# EAGLE library part CON-HARTING-ML_ML10 (library iMX233-OLinuXino-NANO_Rev_B)
HARTING
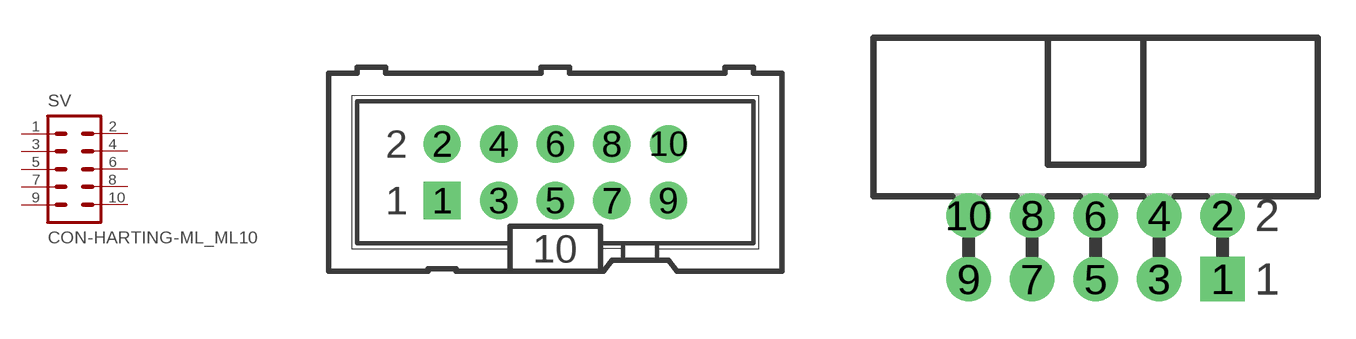
[diagram p8: symbol with the pads of CON-HARTING-ML_ML10-MALE; footprints CON-HARTING-ML_ML10-MALE, CON-HARTING-ML_ML10L-FEMALE]

Designator prefix SV

## CON-HARTING-ML_ML10  [CON-HARTING-ML_ML10-MALE]
1  1  pas
2  2  pas
3  3  pas
4  4  pas
5  5  pas
6  6  pas
7  7  pas
8  8  pas
9  9  pas
10  10  pas

## CON-HARTING-ML_ML10"  [CON-HARTING-ML_ML10L-FEMALE]
Pads as for CON-HARTING-ML_ML10-MALE

## CON-HARTING-ML_ML10-3M  [CON-HARTING-ML_3M_10]
Pads as for CON-HARTING-ML_ML10-MALE

## CON-HARTING-ML_ML10-3ML  [CON-HARTING-ML_3M_10L]
Pads as for CON-HARTING-ML_ML10-MALE

## CON-HARTING-ML_ML10F50  [CON-HARTING-ML_ML10_50MILS_F]
Pads as for CON-HARTING-ML_ML10-MALE

## CON-HARTING-ML_ML10L  [CON-HARTING-ML_ML10L]
Pads as for CON-HARTING-ML_ML10-MALE

## CON-HARTING-ML_ML10M50  [CON-HARTING-ML_ML10_50MILS_M]
Pads as for CON-HARTING-ML_ML10-MALE

## CON-HARTING-ML_ML10MD  [CON-HARTING-ML_ML10_S]
Pads as for CON-HARTING-ML_ML10-MALE

## CON-HARTING-ML_ML10ML10-FEMALE  [CON-HARTING-ML_ML10-FEMALE]
Pads as for CON-HARTING-ML_ML10-MALE

## CON-HARTING-ML_ML10ML10-FEMALE_IDC10S/PCB_  [CON-HARTING-ML_ML10-FEMALE(IDC10S/PCB)]
Pads as for CON-HARTING-ML_ML10-MALE

## CON-HARTING-ML_ML10ML10M  [CON-HARTING-ML_ML10_MIRROR]
Pads as for CON-HARTING-ML_ML10-MALE

## CON-HARTING-ML_ML10ML10_NEW  [CON-HARTING-ML_ML10_NEW]
Pads as for CON-HARTING-ML_ML10-MALE

## CON-HARTING-ML_ML10R  [CON-HARTING-ML_BH10R]
Pads as for CON-HARTING-ML_ML10-MALE

## CON-HARTING-ML_ML10SMD  [CON-HARTING-ML_ML10_PADS]
Pads as for CON-HARTING-ML_ML10-MALE

## CON-HARTING-ML_ML10SMD_1  [CON-HARTING-ML_ML10L_PADS_FEMAIL]
Pads as for CON-HARTING-ML_ML10-MALE

## Footprint CON-HARTING-ML_ML10-MALE (pad centres in mm)
HARTING
drill 1.1 pad 1.676 square: 1 -5.08,-1.27
drill 1.1 pad 1.676: 2 -5.08,1.27; 3 -2.54,-1.27; 4 -2.54,1.27; 5 0,-1.27; 6 0,1.27; 7 2.54,-1.27; 8 2.54,1.27; 9 5.08,-1.27; 10 5.08,1.27

## Footprint CON-HARTING-ML_ML10L-FEMALE (pad centres in mm)
drill 1 pad 1.778 square: 1 5.08,-6.35
drill 1 pad 1.778: 2 5.08,-3.81; 3 2.54,-6.35; 4 2.54,-3.81; 5 0,-6.35; 6 0,-3.81; 7 -2.54,-6.35; 8 -2.54,-3.81; 9 -5.08,-6.35; 10 -5.08,-3.81

## Footprint CON-HARTING-ML_3M_10 (pad centres in mm)
3M
drill 0.813 square: 1 -5.08,-1.27; 2 -5.08,1.27; 3 -2.54,-1.27; 4 -2.54,1.27; 5 0,-1.27; 6 0,1.27; 7 2.54,-1.27; 8 2.54,1.27; 9 5.08,-1.27; 10 5.08,1.27

## Footprint CON-HARTING-ML_3M_10L (pad centres in mm)
3M
drill 0.813 square: 1 -5.08,-5.08; 2 -5.08,-2.54; 3 -2.54,-5.08; 4 -2.54,-2.54; 5 0,-5.08; 6 0,-2.54; 7 2.54,-5.08; 8 2.54,-2.54; 9 5.08,-5.08; 10 5.08,-2.54
hole 2.54 at -10.998,-3.277
hole 2.54 at 10.998,-3.277

## Footprint CON-HARTING-ML_ML10_50MILS_F (pad centres in mm)
connector with 50 mils pich for Olimex's projects
smd 0.66 x 2.54: 1 -2.54,1.905; 2 -2.54,-1.905; 3 -1.27,1.905; 4 -1.27,-1.905; 5 0,1.905; 6 0,-1.905; 7 1.27,1.905; 8 1.27,-1.905; 9 2.54,1.905; 10 2.54,-1.905

## Footprint CON-HARTING-ML_ML10L (pad centres in mm)
HARTING
drill 1 pad 1.778 square: 1 -5.08,-1.27
drill 1 pad 1.778: 2 -5.08,1.27; 3 -2.54,-1.27; 4 -2.54,1.27; 5 0,-1.27; 6 0,1.27; 7 2.54,-1.27; 8 2.54,1.27; 9 5.08,-1.27; 10 5.08,1.27

## Footprint CON-HARTING-ML_ML10_50MILS_M (pad centres in mm)
connector with 50 mils pich for Olimex's projects
smd 0.66 x 2.794: 1 -2.54,-2.032; 2 -2.54,2.032; 3 -1.27,-2.032; 4 -1.27,2.032; 5 0,-2.032; 6 0,2.032; 7 1.27,-2.032; 8 1.27,2.032; 9 2.54,-2.032; 10 2.54,2.032

## Footprint CON-HARTING-ML_ML10_S (pad centres in mm)
smd 1 x 4.25: 1 -5.08,-3.125; 2 -5.08,3.125; 3 -2.54,-3.125; 4 -2.54,3.125; 5 0,-3.125; 6 0,3.125; 7 2.54,-3.125; 8 2.54,3.125; 9 5.08,-3.125; 10 5.08,3.125

## Footprint CON-HARTING-ML_ML10-FEMALE (pad centres in mm)
drill 1.016 pad 1.676 square: 1 -5.08,1.27
drill 1.016 pad 1.676: 2 -5.08,-1.27; 3 -2.54,1.27; 4 -2.54,-1.27; 5 0,1.27; 6 0,-1.27; 7 2.54,1.27; 8 2.54,-1.27; 9 5.08,1.27; 10 5.08,-1.27

## Footprint CON-HARTING-ML_ML10-FEMALE(IDC10S/PCB) (pad centres in mm)
drill 1.016 pad 1.676 square: 1 -5.08,1.27
drill 1.016 pad 1.676: 2 -5.08,-1.27; 3 -2.54,1.27; 4 -2.54,-1.27; 5 0,1.27; 6 0,-1.27; 7 2.54,1.27; 8 2.54,-1.27; 9 5.08,1.27; 10 5.08,-1.27

## Footprint CON-HARTING-ML_ML10_MIRROR (pad centres in mm)
drill 1.016 pad 1.676 square: 1 -5.08,1.27
drill 1.016 pad 1.676: 2 -5.08,-1.27; 3 -2.54,1.27; 4 -2.54,-1.27; 5 0,1.27; 6 0,-1.27; 7 2.54,1.27; 8 2.54,-1.27; 9 5.08,1.27; 10 5.08,-1.27

## Footprint CON-HARTING-ML_ML10_NEW (pad centres in mm)
drill 1.016 pad 1.676 square: 1 -5.08,-1.27
drill 1.016 pad 1.676: 2 -5.08,1.27; 3 -2.54,-1.27; 4 -2.54,1.27; 5 0,-1.27; 6 0,1.27; 7 2.54,-1.27; 8 2.54,1.27; 9 5.08,-1.27; 10 5.08,1.27

## Footprint CON-HARTING-ML_BH10R (pad centres in mm)
HARTING , but silkscreen with 1mm protrusion, suitable for Olimex BH10R edited by Yassen
drill 1 pad 1.778 square: 1 -5.08,-1.27
drill 1 pad 1.778: 2 -5.08,1.27; 3 -2.54,-1.27; 4 -2.54,1.27; 5 0,-1.27; 6 0,1.27; 7 2.54,-1.27; 8 2.54,1.27; 9 5.08,-1.27; 10 5.08,1.27

## Footprint CON-HARTING-ML_ML10_PADS (pad centres in mm)
smd 1.651 x 3.683: 1 -5.08,-0.229; 3 -2.54,-0.229; 5 0,-0.229; 7 2.54,-0.229; 9 5.08,-0.229
smd 1.651 x 3.683 bottom: 2 -5.08,-0.229; 4 -2.54,-0.229; 6 0,-0.229; 8 2.54,-0.229; 10 5.08,-0.229

## Footprint CON-HARTING-ML_ML10L_PADS_FEMAIL (pad centres in mm)
smd 1.651 x 3.683 bottom: 1 -5.08,-3.404; 3 -2.54,-3.404; 5 0,-3.404; 7 2.54,-3.404; 9 5.08,-3.404
smd 1.651 x 3.683: 2 -5.08,-3.404; 4 -2.54,-3.404; 6 0,-3.404; 8 2.54,-3.404; 10 5.08,-3.404